# EAGLE library part MCP125* (library Microchip)
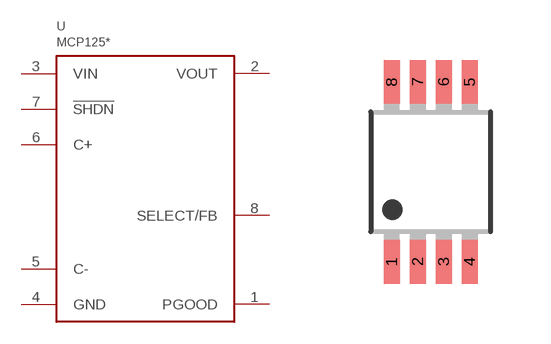
[diagram p36: symbol with the pads of MSOP8; footprint MSOP8]

Designator prefix U

## MCP1252-33X50, MCP1252-ADJ, MCP1253-33X50, MCP1253-ADJ  [MSOP8]
1  PGOOD
2  VOUT
3  VIN
4  GND
5  C-
6  C+
7  !SHDN
8  SELECT/FB

## Footprint MSOP8 (pad centres in mm)
smd 0.4 x 1.1: 1 -0.975,-2.25; 2 -0.325,-2.25; 3 0.325,-2.25; 4 0.975,-2.25; 5 0.975,2.25; 6 0.325,2.25; 7 -0.325,2.25; 8 -0.975,2.25